# EAGLE library part RASPI4 (library RaspConnector)
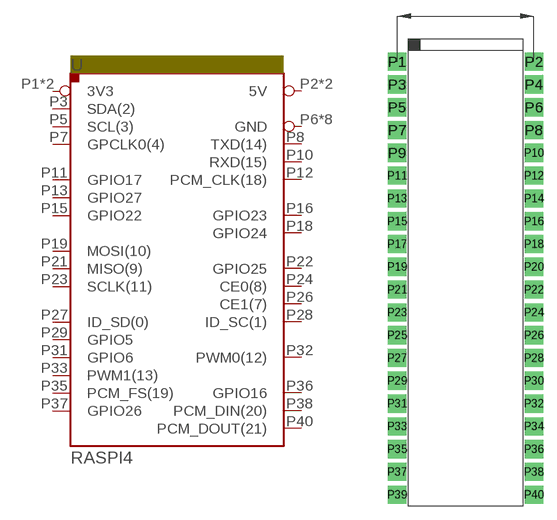
[diagram p0: symbol with the pads of CONN2-SIL40; footprint CONN2-SIL40]

Designator prefix -

## RASPI4  [CONN2-SIL40]
P1  3V3  out
P2  5V  out
P3  SDA(2)
P4  5V  out
P5  SCL(3)
P6  GND  pwr
P7  GPCLK0(4)
P8  TXD(14)
P9  GND  pwr
P10  RXD(15)
P11  GPIO17
P12  PCM_CLK(18)
P13  GPIO27
P14  GND  pwr
P15  GPIO22
P16  GPIO23
P17  3V3  out
P18  GPIO24
P19  MOSI(10)
P20  GND  pwr
P21  MISO(9)
P22  GPIO25
P23  SCLK(11)
P24  CE0(8)
P25  GND  pwr
P26  CE1(7)
P27  ID_SD(0)
P28  ID_SC(1)
P29  GPIO5
P30  GND  pwr
P31  GPIO6
P32  PWM0(12)
P33  PWM1(13)
P34  GND  pwr
P35  PCM_FS(19)
P36  GPIO16
P37  GPIO26
P38  PCM_DIN(20)
P39  GND  pwr
P40  PCM_DOUT(21)

## Footprint CONN2-SIL40 (pad centres in mm)
drill 0.8 pad 2.032 square: P1 -7.62,0; P2 7.62,0; P3 -7.62,-2.54; P4 7.62,-2.54; P5 -7.62,-5.08; P6 7.62,-5.08; P7 -7.62,-7.62; P8 7.62,-7.62; P9 -7.62,-10.16; P10 7.62,-10.16; P11 -7.62,-12.7; P12 7.62,-12.7; P13 -7.62,-15.24; P14 7.62,-15.24; P15 -7.62,-17.78; P16 7.62,-17.78; P17 -7.62,-20.32; P18 7.62,-20.32; P19 -7.62,-22.86; P20 7.62,-22.86; P21 -7.62,-25.4; P22 7.62,-25.4; P23 -7.62,-27.94; P24 7.62,-27.94; P25 -7.62,-30.48; P26 7.62,-30.48; P27 -7.62,-33.02; P28 7.62,-33.02; P29 -7.62,-35.56; P30 7.62,-35.56; P31 -7.62,-38.1; P32 7.62,-38.1; P33 -7.62,-40.64; P34 7.62,-40.64; P35 -7.62,-43.18; P36 7.62,-43.18; P37 -7.62,-45.72; P38 7.62,-45.72; P39 -7.62,-48.26; P40 7.62,-48.26